# Altium schematic symbol library bq21040.SchLib: 1 symbol
Pins are listed as number, name and electrical type; pins without a type are passive.

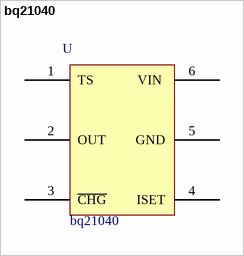
[diagram p0: symbol bq21040]

## bq21040
designator U  value bq21040  (hidden comment: *)
Manufacturer: Texas Instruments; Manufacturer Code: BQ21040DBVT; Comments: 0.8-A, Single-Input, Single Cell Li-Ion and Li-Pol Battery Charger; Digikey Code: 296-47315-2-ND; Farnell Code: 2576287
footprint SOT23-6
pins: 1 TS, 2 OUT, 3 ~{CHG}, 4 ISET, 5 GND, 6 VIN 